# EAGLE library part JST-XH-12-PIN (library Connectors)
JST XH Connector 2 Pin Wire to board connector. Pitch: 2,54 mm, (0.100") Number of pins: 12 Created by Rembrandt Electronics www.rembrandtelectronics.com
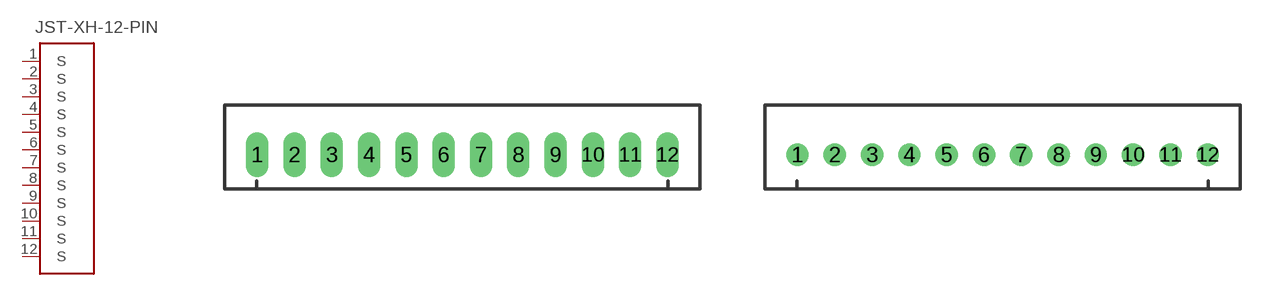
[diagram p6: symbol with the pads of JST-XH-12-PACKAGE-LONG-PAD; footprints JST-XH-12-PACKAGE-LONG-PAD, JST-XH-12-PACKAGE-ROUND-PAD]

Designator prefix X; gates 1=MV 2=M 3=M 4=M 5=M 6=M 7=M 8=M 9=M 10=M 11=M 12=M G$1=BOX_12

## JST-XH-12-PIN-LONG-PAD  [JST-XH-12-PACKAGE-LONG-PAD]
1  1:S  pas
2  2:S  pas
3  3:S  pas
4  4:S  pas
5  5:S  pas
6  6:S  pas
7  7:S  pas
8  8:S  pas
9  9:S  pas
10  10:S  pas
11  11:S  pas
12  12:S  pas

## JST-XH-12-PIN-ROUND-PAD  [JST-XH-12-PACKAGE-ROUND-PAD]
Pads as for JST-XH-12-PACKAGE-LONG-PAD

## Footprint JST-XH-12-PACKAGE-LONG-PAD (pad centres in mm)
JST XH Connector Long Pads (Package) Wire to board connector. Pitch: 2,54 mm, (0.100") Number of pins: 12 Created by Rembrandt Electronics www.rembrandtelectronics.com
drill 1.016 long: 1 -13.97,0; 2 -11.43,0; 3 -8.89,0; 4 -6.35,0; 5 -3.81,0; 6 -1.27,0; 7 1.27,0; 8 3.81,0; 9 6.35,0; 10 8.89,0; 11 11.43,0; 12 13.97,0

## Footprint JST-XH-12-PACKAGE-ROUND-PAD (pad centres in mm)
JST XH Connector Round Pads (Package) Wire to board connector. Pitch: 2,54 mm, (0.100") Number of pins: 12 Created by Rembrandt Electronics www.rembrandtelectronics.com
drill 1.016: 1 -13.97,0; 2 -11.43,0; 3 -8.89,0; 4 -6.35,0; 5 -3.81,0; 6 -1.27,0; 7 1.27,0; 8 3.81,0; 9 6.35,0; 10 8.89,0; 11 11.43,0; 12 13.97,0